# Altium schematic symbol library SKALE_LIB.SCHLIB: 65 symbols (part 1 of 2)
Pins are listed as number, name and electrical type; pins without a type are passive.

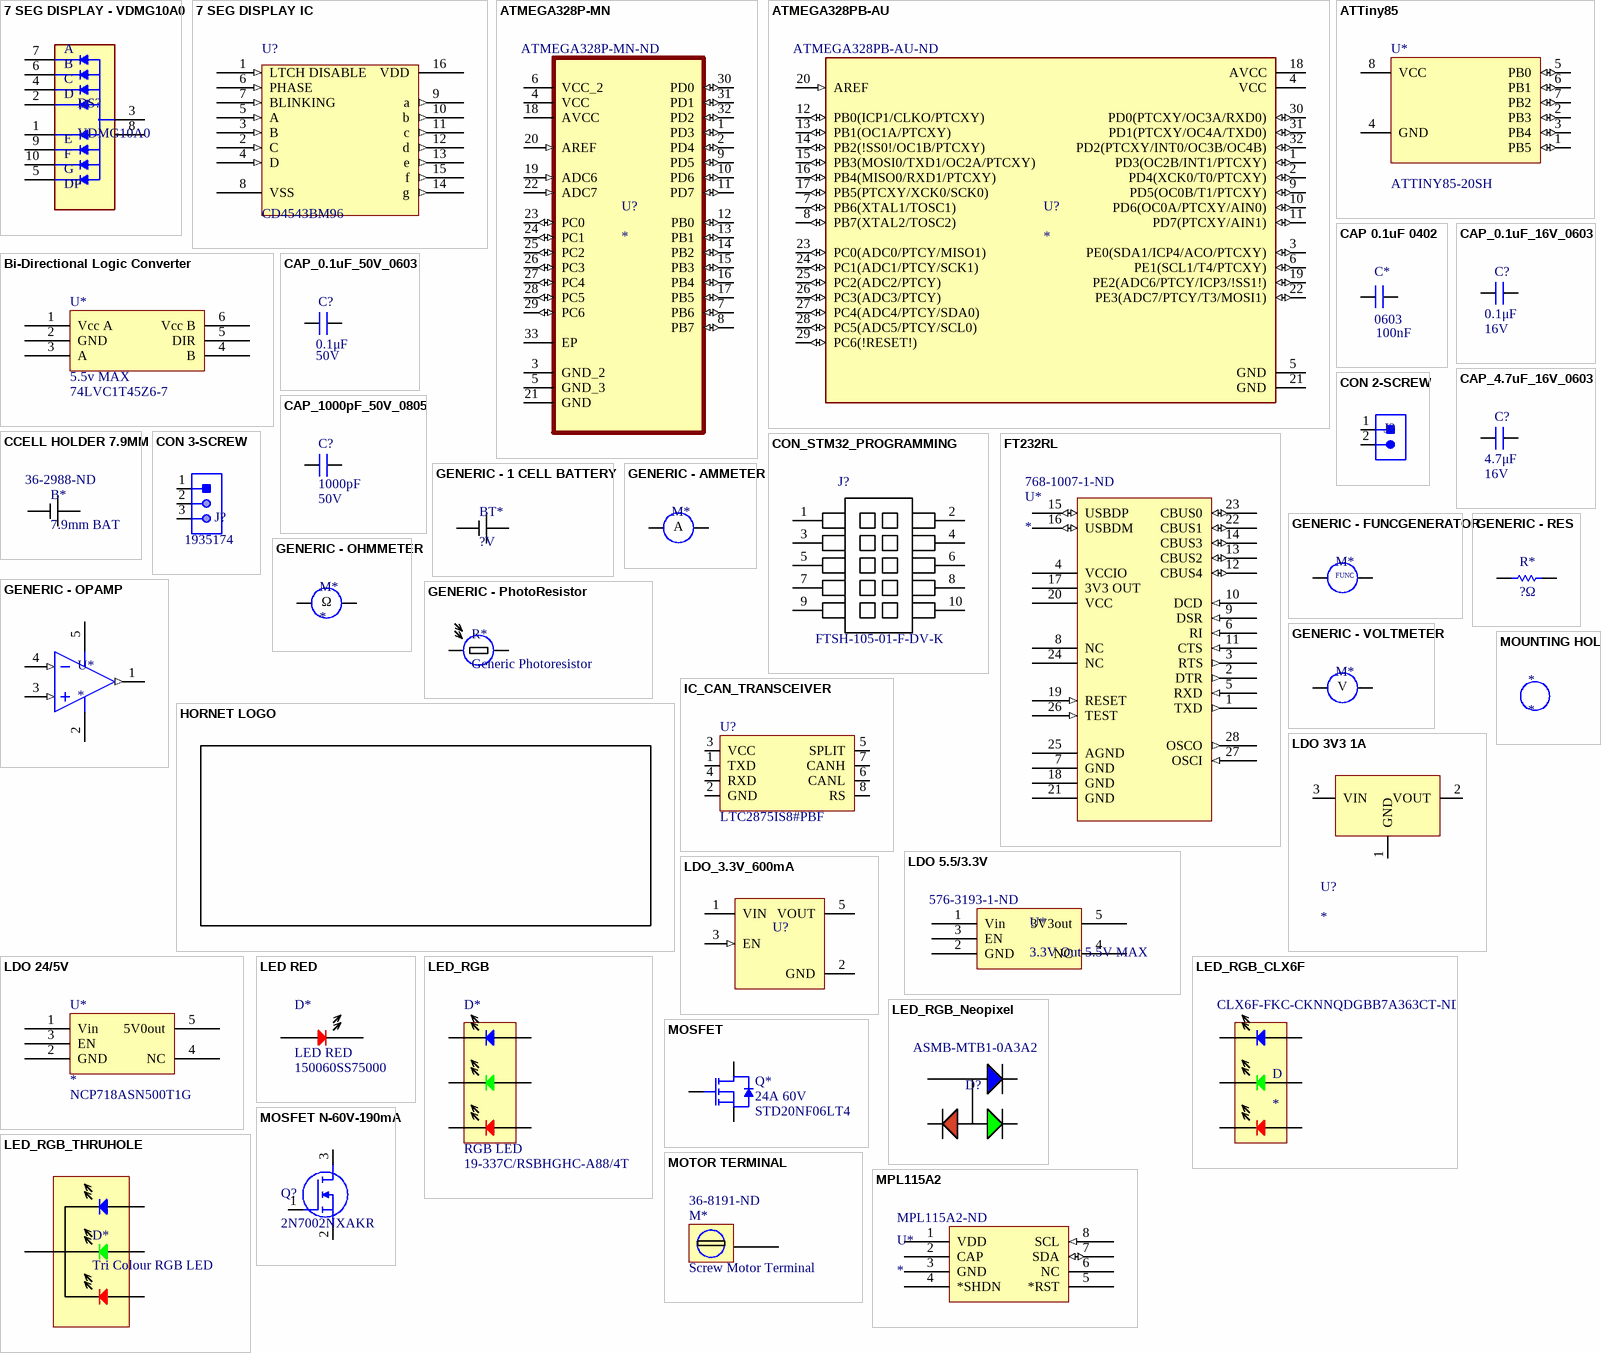
[diagram p0: symbols 7 SEG DISPLAY - VDMG10A0 to MPL115A2]

## 7 SEG DISPLAY - VDMG10A0
designator DS?, comment VDMG10A0
Smart/Normal 7 Seg Numeric LED Display; Manufacturer: Vishay Semiconductors; Package: SMD-10 Vishay; MP: VDMG10A0; Supplier 1: Digi-Key; Manufacturer Part Number: VDMG10A0; RoHS: Yes; Category: LED Displays; Stock 1: 6191; Pricing 1: 1=1.55000, 10=1.38200, 100=1.07760 (USD); Optoelectronic Device Type: SMART/NORMAL 7 SEG NUMERIC LED DISPLAY; REACH SVHC: No SVHC; RoHS Compliant: Yes; ComponentLink1URL: https://datasheet.ciiva.com:443/pdfs/VipMasterIC/IC/VISH/VISH-S-A0001108912/VISH-S-A0001108912-1.pdf?src-supplier=IHS+Markit; ComponentLink1Description: https://datasheet.ciiva.com:443/pdfs/VipMasterIC/IC/VISH/VISH-S-A0001108912/VISH-S-A0001108912-1.pdf?src-supplier=IHS+Markit; ComponentLink2URL: https://datasheet.ciiva.com/24075/vdmx10x0-272413-24075313.pdf?src-supplier=Mouser; ComponentLink2Description: https://datasheet.ciiva.com/24075/vdmx10x0-272413-24075313.pdf?src-supplier=Mouser; ComponentLink3URL: https://datasheet.ciiva.com/23867/vdmx10x0-23867376.pdf?src-supplier=Newark; ComponentLink3Description: https://datasheet.ciiva.com/23867/vdmx10x0-23867376.pdf?src-supplier=Newark; ComponentLink4URL: https://datasheet.ciiva.com/29566/vdmx10x0-29566054.pdf?src-supplier=Digi-Key; ComponentLink4Description: https://datasheet.ciiva.com/29566/vdmx10x0-29566054.pdf?src-supplier=Digi-Key; ComponentLink5URL: https://datasheet.ciiva.com/29566/vdmx10x0-29566055.pdf?src-supplier=Digi-Key; ComponentLink5Description: https://datasheet.ciiva.com/29566/vdmx10x0-29566055.pdf?src-supplier=Digi-Key; ComponentLink6URL: https://datasheet.ciiva.com/29566/vdmx10x0-29566056.pdf?src-supplier=Digi-Key; ComponentLink6Description: https://datasheet.ciiva.com/29566/vdmx10x0-29566056.pdf?src-supplier=Digi-Key; ComponentLink7URL: https://datasheet.ciiva.com/30017/vdmx10x0-30017276.pdf?src-supplier=Avnet; ComponentLink7Description: https://datasheet.ciiva.com/30017/vdmx10x0-30017276.pdf?src-supplier=Avnet; ComponentLink8URL: https://datasheet.ciiva.com/23867/1809851-23867367.pdf?src-supplier=Newark; ComponentLink8Description: https://datasheet.ciiva.com/23867/1809851-23867367.pdf?src-supplier=Newark; ComponentLink9URL: https://datasheet.ciiva.com/22726/1913356-22726255.pdf?src-supplier=Element14; ComponentLink9Description: https://datasheet.ciiva.com/22726/1913356-22726255.pdf?src-supplier=Element14; ComponentLink10URL: https://datasheet.ciiva.com/24208/vdmx10x0-24208888.pdf?src-supplier=Future+Electronics; ComponentLink10Description: https://datasheet.ciiva.com/24208/vdmx10x0-24208888.pdf?src-supplier=Future+Electronics; Supplier Part Number 1: VDMG10A0CT-ND
footprint DISPLAY_VDMG10A0
pins: 1 E, 2 D, 3 ANODE, 4 C, 5 DP, 6 B, 7 A, 8 ANODE, 9 F, 10 G

## 7 SEG DISPLAY IC
designator U?, comment CD4543BM96
Seven Segment Decoder/Driver, 4000/14000/40000 Series, Configurable Output, CMOS, PDSO16; Manufacturer: Texas Instruments; Package Body Material: Plastic; Input Conditioning: LATCHED; Number of Functions: 1; Propagation Delay (tpd): 1200ns; Supply Voltage-Max (Vsup): 18V; Supply Voltage-Min (Vsup): 3V; Supply Voltage-Nom (Vsup): 5V; Qualification Status: Not Qualified; Supplier 1: Digi-Key; RoHS: Yes; Category: Decoders and Multiplexers; Stock 1: 1242; Pricing 1: 1=0.44000, 10=0.37800, 25=0.35240, 100=0.28200, 250=0.26184, 500=0.22154, 1000=0.17119 (USD); Package Code: SOP; Number of Pins: 16; Package Shape: Rectangular; Terminal Finish: Nickel; Min Operating Temperature: -55°C; Max Operating Temperature: 125°C; JESD-609 Code: e4; Output Polarity: Configurable; JESD-30 Code: R-PDSO-G16; Logic IC Type: SEVEN SEGMENT DECODER/DRIVER; Moisture Sensitivity Level: 1; Package Style: SMALL OUTLINEMeter; Peak Reflow Temperature (Cel): 260°C; Surface Mount: Yes; Technology: CMOS; Terminal Form: Gull Wing; Terminal Position: DUAL; Length: 9.9mm; Width: 3.9mm; Height - Seated (Max): 1.75mm; Terminal Pitch: 1.27mm; Temperature Grade: MILITARY; REACH SVHC: Yes; RoHS Compliant: Yes; ComponentLink1URL: https://www.ti.com:443/lit/ds/symlink/cd4543b.pdf?src-supplier=IHS+Markit; ComponentLink1Description: https://www.ti.com:443/lit/ds/symlink/cd4543b.pdf?src-supplier=IHS+Markit; ComponentLink2URL: https://datasheet.ciiva.com/15092/getdatasheetpartid-635761-15092907.pdf?src-supplier=Verical; ComponentLink2Description: https://datasheet.ciiva.com/15092/getdatasheetpartid-635761-15092907.pdf?src-supplier=Verical; ComponentLink3URL: https://datasheet.ciiva.com/41457/001013540-da-01-en-ic-bcd-7seg-ltch-cd4543bm96-soic-16-tid-41457278.pdf?src-supplier=Conrad; ComponentLink3Description: https://datasheet.ciiva.com/41457/001013540-da-01-en-ic-bcd-7seg-ltch-cd4543bm96-soic-16-tid-41457278.pdf?src-supplier=Conrad; ComponentLink4URL: https://datasheet.ciiva.com/6612/cd4543b-6612264.pdf?src-supplier=Digi-Key; ComponentLink4Description: https://datasheet.ciiva.com/6612/cd4543b-6612264.pdf?src-supplier=Digi-Key; ComponentLink5URL: https://datasheet.ciiva.com/6612/cd4543b-6612265.pdf?src-supplier=Digi-Key; ComponentLink5Description: https://datasheet.ciiva.com/6612/cd4543b-6612265.pdf?src-supplier=Digi-Key; ComponentLink6URL: https://datasheet.ciiva.com/6612/cd4543b-6612267.pdf?src-supplier=Digi-Key; ComponentLink6Description: https://datasheet.ciiva.com/6612/cd4543b-6612267.pdf?src-supplier=Digi-Key; Supplier Part Number 1: 296-31539-1-ND; Manufacturer Part Number: CD4543BM96
footprint SOIC127P600X175-16N
pins: 1 LTCH DISABLE (in), 2 C (in), 3 B (in), 4 D (in), 5 A (in), 6 PHASE (in), 7 BLINKING (in) "BLANKING", 8 VSS (power), 9 a (out), 10 b (out), 11 c (out), 12 d (out), 13 e (out), 14 g (out), 15 f (out), 16 VDD (power)

## ATMEGA328P-MN
designator U?  Supplier Part Number 1: ATMEGA328P-MN-ND
RISC Microcontroller, 8-Bit, FLASH, AVR RISC CPU, 20MHz, CMOS, PQCC32; Manufacturer: Microchip / Atmel; MP: ATMEGA328P-MN; MF: Microchip; Package Body Material: Plastic; Number of I/O Lines: 23; Package Equivalence Code: LCC32,.2SQ,20; Power Supplies: 2.5V; Speed: 20RPM; Max Supply Current: 9mA; Max Supply Voltage: 5.5V; Min Supply Voltage: 4.5V; Supply Voltage-Nom: 5V; Time @ Peak Reflow Temperature-Max (s): 40s; Qualification Status: Not Qualified; Price: None; Value: *; Package: VQFN-32 Microchip; SnapEDA_Link: https://www.snapeda.com/parts/ATMEGA328P-MN/Microchip/view-part/652121/?ref=snap; Availability: Unavailable; Supplier 1: Digi-Key; Manufacturer Part Number: ATMEGA328P-MN; RoHS: Yes; Category: Microcontrollers; Stock 1: 639; Pricing 1: 1=2.44000, 25=2.24400, 100=2.02400 (USD); Package Code: HVQCCN; Number of Pins: 32; Package Shape: Square; Terminal Finish: Tin; Min Operating Temperature: -40°C; Max Operating Temperature: 105°C; JESD-609 Code: e3; Max Frequency: 20MHz; JESD-30 Code: S-PQCC-N32; Moisture Sensitivity Level: 3; Package Style: CHIP CARRIER, HEAT SINK/SLUG, VERY THIN PROFILEMeter; Peak Reflow Temperature (Cel): 260°C; Surface Mount: Yes; Technology: CMOS; Terminal Form: No Lead; Terminal Position: QUAD; Length: 5mm; Width: 5mm; Height - Seated (Max): 1mm; Terminal Pitch: 0.5mm; Temperature Grade: INDUSTRIAL; REACH SVHC: Yes; RoHS Compliant: Yes; ComponentLink1URL: https://datasheet.ciiva.com:443/pdfs/VipMasterIC/IC/ATML/ATML-S-A0002642585/ATML-S-A0002642585-1.pdf?src-supplier=IHS+Markit; ComponentLink1Description: https://datasheet.ciiva.com:443/pdfs/VipMasterIC/IC/ATML/ATML-S-A0002642585/ATML-S-A0002642585-1.pdf?src-supplier=IHS+Markit; ComponentLink2URL: https://datasheet.ciiva.com/26949/getdatasheetpartid-513389-26949909.pdf?src-supplier=Verical; ComponentLink2Description: https://datasheet.ciiva.com/26949/getdatasheetpartid-513389-26949909.pdf?src-supplier=Verical
footprint QFN50P500X500X100-33N
pins: 1 PD3 (io), 2 PD4 (io), 3 GND_2, 4 VCC (power), 5 GND_3, 6 VCC_2 (power), 7 PB6 (io), 8 PB7 (io), 9 PD5 (io), 10 PD6 (io), 11 PD7 (io), 12 PB0 (io), 13 PB1 (io), 14 PB2 (io), 15 PB3 (io), 16 PB4 (io), 17 PB5 (io), 18 AVCC (power), 19 ADC6 (in), 20 AREF (in), 21 GND, 22 ADC7 (in), 23 PC0 (io), 24 PC1 (io), 25 PC2 (io), 26 PC3 (io), 27 PC4 (io), 28 PC5 (io), 29 PC6 (io), 30 PD0 (io), 31 PD1 (io), 32 PD2 (io), 33 EP

## ATMEGA328PB-AU
designator U?  Supplier Part Number 1: ATMEGA328PB-AU-ND
RISC Microcontroller, 8-Bit, FLASH, AVR RISC CPU, 20MHz, CMOS, PQFP32; Manufacturer: Microchip; MF: Microchip Technology; MP: ATMEGA328PB-AU; Digi-Key_Purchase_URL: https://www.digikey.com/product-detail/en/microchip-technology/ATMEGA328PB-AU/ATMEGA328PB-AU-ND/5638812?utm_source=snapeda&utm_medium=aggregator&utm_campaign=symbol; Digi-Key_Part_Number: ATMEGA328PB-AU-ND; Value: *; SnapEDA_Link: https://www.snapeda.com/parts/ATMEGA328PB-AU/Microchip/view-part/4478285/?ref=snap; Package: TQFP-32 Microchip Technology; Supplier 1: Digi-Key; Manufacturer Part Number: ATMEGA328PB-AU; RoHS: Yes; Category: Microcontrollers; Pricing 1: 1=1.47000, 25=1.35320, 100=1.23200 (USD); Technology: CMOS; REACH SVHC: Yes; RoHS Compliant: Yes; ComponentLink1URL: https://datasheet.ciiva.com:443/pdfs/VipMasterIC/IC/MCHP/MCHP-S-A0004276582/MCHP-S-A0004276582-1.pdf?src-supplier=IHS+Markit; ComponentLink1Description: https://datasheet.ciiva.com:443/pdfs/VipMasterIC/IC/MCHP/MCHP-S-A0004276582/MCHP-S-A0004276582-1.pdf?src-supplier=IHS+Markit; ComponentLink2URL: http://www.farnell.com/datasheets/2915218.pdf?src-supplier=Farnell; ComponentLink2Description: http://www.farnell.com/datasheets/2915218.pdf?src-supplier=Farnell; ComponentLink3URL: http://www.farnell.com/datasheets/2915218.pdf?src-supplier=Newark; ComponentLink3Description: http://www.farnell.com/datasheets/2915218.pdf?src-supplier=Newark; ComponentLink4URL: http://www.microchip.com/mymicrochip/filehandler.aspx?ddocname=en589666&src-supplier=Digi-Key; ComponentLink4Description: http://www.microchip.com/mymicrochip/filehandler.aspx?ddocname=en589666&src-supplier=Digi-Key
footprint QFP80P900X900X120-32N
pins: 1 PD3(OC2B/INT1/PTCXY) (io), 2 PD4(XCK0/T0/PTCXY) (io), 3 PE0(SDA1/ICP4/ACO/PTCXY) (io), 4 VCC (power), 5 GND (power), 6 PE1(SCL1/T4/PTCXY) (io), 7 PB6(XTAL1/TOSC1) (io), 8 PB7(XTAL2/TOSC2) (io), 9 PD5(OC0B/T1/PTCXY) (io), 10 PD6(OC0A/PTCXY/AIN0) (io), 11 PD7(PTCXY/AIN1) (io), 12 PB0(ICP1/CLKO/PTCXY) (io), 13 PB1(OC1A/PTCXY) (io), 14 PB2(!SS0!/OC1B/PTCXY) (io), 15 PB3(MOSI0/TXD1/OC2A/PTCXY) (io), 16 PB4(MISO0/RXD1/PTCXY) (io), 17 PB5(PTCXY/XCK0/SCK0) (io), 18 AVCC (power), 19 PE2(ADC6/PTCY/ICP3/!SS1!) (io), 20 AREF (in), 21 GND (power), 22 PE3(ADC7/PTCY/T3/MOSI1) (io), 23 PC0(ADC0/PTCY/MISO1) (io), 24 PC1(ADC1/PTCY/SCK1) (io), 25 PC2(ADC2/PTCY) (io), 26 PC3(ADC3/PTCY) (io), 27 PC4(ADC4/PTCY/SDA0) (io), 28 PC5(ADC5/PTCY/SCL0) (io), 29 PC6(!RESET!) (io), 30 PD0(PTCXY/OC3A/RXD0) (io), 31 PD1(PTCXY/OC4A/TXD0) (io), 32 PD2(PTCXY/INT0/OC3B/OC4B) (io)

## ATTiny85
designator U*  Manufacturer Part Number: ATTINY85-20SH  (hidden comment: ATTiny85)
RISC Microcontroller, 8-Bit, FLASH, AVR RISC CPU, 20MHz, CMOS, PDSO8; Manufacturer: Microchip / Atmel; Package Body Material: Plastic; Number of I/O Lines: 6; Package Equivalence Code: SOP8,.3; Power Supplies: 3/5V; Speed: 20RPM; Max Supply Current: 8mA; Max Supply Voltage: 5.5V; Min Supply Voltage: 4.5V; Supply Voltage-Nom: 5V; Qualification Status: Not Qualified; Supplier 1: Digi-Key; RoHS: Yes; Category: Microcontrollers; Stock 1: 1154; Package Code: SOP; Number of Pins: 8; Package Shape: Rectangular; Min Operating Temperature: -40°C; Max Operating Temperature: 85°C; Max Frequency: 20MHz; JESD-30 Code: R-PDSO-G8; Package Style: SMALL OUTLINEMeter; Surface Mount: Yes; Technology: CMOS; Terminal Form: Gull Wing; Terminal Position: DUAL; Length: 5.29mm; Width: 5.24mm; Height - Seated (Max): 2.16mm; Terminal Pitch: 1.27mm; Temperature Grade: INDUSTRIAL; ComponentLink1URL: https://datasheet.ciiva.com:443/pdfs/VipMasterIC/IC/ATML/ATMLS09344/ATMLS09344-1.pdf?src-supplier=IHS+Markit; ComponentLink1Description: https://datasheet.ciiva.com:443/pdfs/VipMasterIC/IC/ATML/ATMLS09344/ATMLS09344-1.pdf?src-supplier=IHS+Markit; ComponentLink2URL: https://datasheet.ciiva.com/9235/doc2586-9235500.pdf?src-supplier=Avnet; ComponentLink2Description: https://datasheet.ciiva.com/9235/doc2586-9235500.pdf?src-supplier=Avnet; Supplier Part Number 1: ATTINY85-20SH-ND
footprint SOIC127P798X216-8N
pins: 1 PB5 (io), 2 PB3 (io), 3 PB4 (io), 4 GND, 5 PB0 (io), 6 PB1 (io), 7 PB2 (io), 8 VCC (power)

## Bi-Directional Logic Converter
designator U*, comment 5.5v MAX  Manufacturer Part Number: 74LVC1T45Z6-7
Bus Transceiver, LVC/LCX/Z Series, 1-Func, 1-Bit, True Output, CMOS, PDSO6; Manufacturer: Diodes; Package Body Material: Plastic; Control Type: COMMON CONTROL; Count Direction: Bidirectional; Load/Preset Input: Yes; Max I(ol): 24mA; Number of Bits: 1; Number of Ports: 2; Output Characteristics: 3-STATE; Power Supplies: 3.3V; Supply Voltage-Min (Vsup): 1.65V; Qualification Status: Not Qualified; Supplier 1: Digi-Key; RoHS: Yes; Category: Logic ICs; Stock 1: 88129; Pricing 1: 1=0.39000, 10=0.29300, 25=0.26400, 100=0.18240, 250=0.15360, 500=0.12480, 1000=0.09600 (USD); Package Code: VSOF; Number of Pins: 6; Package Shape: Rectangular; Terminal Finish: Tin; Min Operating Temperature: -40°C; Max Operating Temperature: 125°C; JESD-609 Code: e3; Output Polarity: True; JESD-30 Code: R-PDSO-F6; Logic IC Type: BUS TRANSCEIVER; Moisture Sensitivity Level: 1; Number of Functions: 1; Package Style: SMALL OUTLINE, VERY THIN PROFILEMeter; Packaging: Tape and Reel; Supply Voltage-Max (Vsup): 5.5V; Supply Voltage-Nom (Vsup): 3.3V; Surface Mount: Yes; Technology: CMOS; Terminal Form: Flat; Terminal Position: DUAL; Width: 1.2mm; Height - Seated (Max): 0.6mm; Terminal Pitch: 0.5mm; Temperature Grade: AUTOMOTIVE; ComponentLink1URL: https://datasheet.ciiva.com:443/pdfs/VipMasterIC/IC/DIOD/DIOD-S-A0006644025/DIOD-S-A0006644025-1.pdf?src-supplier=IHS+Markit; ComponentLink1Description: https://datasheet.ciiva.com:443/pdfs/VipMasterIC/IC/DIOD/DIOD-S-A0006644025/DIOD-S-A0006644025-1.pdf?src-supplier=IHS+Markit; ComponentLink2URL: http://www.mouser.com/ds/2/115/74LVC1T45-318124.pdf?src-supplier=Mouser; ComponentLink2Description: http://www.mouser.com/ds/2/115/74LVC1T45-318124.pdf?src-supplier=Mouser; ComponentLink3URL: http://diodes.com/datasheets/74LVC1T45.pdf?src-supplier=Avnet; ComponentLink3Description: http://diodes.com/datasheets/74LVC1T45.pdf?src-supplier=Avnet; ComponentLink4URL: https://www.diodes.com/assets/Datasheets/74LVC1T45.pdf?src-supplier=Digi-Key; ComponentLink4Description: https://www.diodes.com/assets/Datasheets/74LVC1T45.pdf?src-supplier=Digi-Key; Supplier Part Number 1: 74LVC1T45Z6-7DICT-ND
footprint 74LVC1T45Z6-7
pins: 1 Vcc A, 2 GND, 3 A, 4 B, 5 DIR, 6 Vcc B (power)

## CAP 0.1uF 0402
designator C*, comment 0603  Capacitance: 100nF
Ceramic Capacitor, Multilayer, Ceramic, 16V, 10% +Tol, 10% -Tol, X5R, 15% TC, 0.1uF, Surface Mount, 0603; Manufacturer: Taiyo Yuden; Manufacturer Part Number: EMK107BJ104KAHT; Multilayer: Yes; Reference Standard: AEC-Q200; Supplier 1: Digi-Key; RoHS: Yes; Category: Ceramic Capacitors; Stock 1: 65712; Mount: Surface Mount; Number of Pins: 2; Dielectric Material: Ceramic; Package Shape: Rectangular; Size Code: 0603; Min Operating Temperature: -55°C; Max Operating Temperature: 85°C; Capacitor Type: Ceramic; Negative Tolerance: 10%; Package Style: SMTMeter; Packaging: Tape and Reel; Positive Tolerance: 10%; Rated DC Voltage (URdc): 16V; Temperature Characteristics Code: X5R; Termination: Wraparound; Length: 1.6mm; Width: 0.8mm; Height: 0.8mm; ComponentLink1URL: https://datasheet.ciiva.com:443/pdfs/VipMasterIC/IC/TAIY/TAIY-S-A0009098652/TAIY-S-A0009098054-1.pdf?src-supplier=IHS+Markit; ComponentLink1Description: https://datasheet.ciiva.com:443/pdfs/VipMasterIC/IC/TAIY/TAIY-S-A0009098652/TAIY-S-A0009098054-1.pdf?src-supplier=IHS+Markit; ComponentLink2URL: http://www.mouser.com/ds/2/396/mlcc11_hq_e-541564.pdf?src-supplier=Mouser; ComponentLink2Description: http://www.mouser.com/ds/2/396/mlcc11_hq_e-541564.pdf?src-supplier=Mouser; ComponentLink3URL: http://ds.yuden.co.jp/TYCOMPAS/ut/detail.do?productNo=EMK107BJ104KAHT&fileName=EMK107BJ104KAHT_SS&mode=specSheetDownload&src-supplier=Digi-Key; ComponentLink3Description: http://ds.yuden.co.jp/TYCOMPAS/ut/detail.do?productNo=EMK107BJ104KAHT&fileName=EMK107BJ104KAHT_SS&mode=specSheetDownload&src-supplier=Digi-Key; ComponentLink4URL: http://www.yuden.co.jp/ut/product/category/capacitor/putpdf/EMK107BJ104KAHT.pdf?src-supplier=Avnet; ComponentLink4Description: http://www.yuden.co.jp/ut/product/category/capacitor/putpdf/EMK107BJ104KAHT.pdf?src-supplier=Avnet; Supplier Part Number 1: 587-3308-1-ND
footprint 0603
pins: 1, 1, 2, 2

## CAP_0.1uF_16V_0603
designator C?  value 0.1μF  Voltage Rating: 16V
CAP CER 0.1UF 16V X7R 0603; Manufacturer Part Number 1: CC0603KRX7R7BB104; Manufacturer 1: Yageo; Package/Footprint: 0603; Supplier Part Number 1: 311-1088-1-ND; Supplier 1: Digi-Key; Dielectric: X7R
footprint CAP0603
pins: 1, 2

## CAP_0.1uF_50V_0603
designator C?  value 0.1μF  Voltage Rating: 50V
CAP CER 0.1UF 50V X7R 0603; Manufacturer Part Number 1: CC0603KRX7R9BB104; Manufacturer 1: Yageo; Package/Footprint: 0603; Supplier Part Number 1: 311-1344-1-ND; Supplier 1: Digi-Key; Mounting Type: SMD; Dielectric: X7R
footprint CAP0603
pins: 1, 2

## CAP_4.7uF_16V_0603
designator C?  value 4.7μF  Voltage Rating: 16V
CAP CER 4.7UF 16V X6S 0603; Manufacturer Part Number 1: GRM188C81C475KE11D; Manufacturer 1: Murata Electronics; Package/Footprint: 0603; Supplier Part Number 1: 490-13362-1-ND; Supplier 1: Digi-Key; Mounting Type: SMD; Dielectric: X6S
footprint CAP0603
pins: 1, 2

## CAP_1000pF_50V_0805
designator C?  value 1000pF  Voltage Rating: 50V
CAP CER 1000pF 50V X7R 0805; Manufacturer 1: Samsung; Manufacturer Part Number 1: CL21B102KBANNNC; Package/Footprint: 0805; Supplier 1: Digi-Key; Mounting Type: SMD; Supplier Part Number 1: 1276-1020-1-ND; Dielectric: X7R
footprint CAP0805
pins: 1, 2

## CCELL HOLDER 7.9MM
designator B*, comment 7.9mm BAT  Supplier Part Number 1: 36-2988-ND
KEYSTONE         2988            BATTERY CONTACT, 7.9MM HEAR AID CELL, SURFACE MT; Manufacturer: Keystone Electronics; Manufacturer Part Number: 2988; Supplier 1: Digi-Key; RoHS: Yes; Category: Batteries and Accessories; Stock 1: 1523; Pricing 1: 1=0.39000, 25=0.35440, 100=0.34690, 250=0.32528, 500=0.28920 (USD); ComponentLink1URL: https://datasheet.ciiva.com/4642/m60p6-29374-4642672.pdf?src-supplier=Mouser; ComponentLink1Description: https://datasheet.ciiva.com/4642/m60p6-29374-4642672.pdf?src-supplier=Mouser; ComponentLink2URL: https://datasheet.ciiva.com/4/2988-4524.pdf?src-supplier=Digi-Key; ComponentLink2Description: https://datasheet.ciiva.com/4/2988-4524.pdf?src-supplier=Digi-Key; ComponentLink3URL: https://datasheet.ciiva.com/1390/1726104-1390366.pdf?src-supplier=Element14; ComponentLink3Description: https://datasheet.ciiva.com/1390/1726104-1390366.pdf?src-supplier=Element14
footprint 2988
pins: 1 -, 2 +

## CON 2-SCREW
designator J?
TERM BLK 2POS SIDE ENTRY 5MM; Manufacturer 1: Phoenix Contact; Manufacturer Part Number 1: 1935161; Package/Footprint: SMD; Supplier 1: Digi-Key; Mounting Type: TH; Supplier Part Number 1: 277-1667-ND
footprint 1935161 (TERM BLK 2POS SIDE ENTRY 5MM PCB)
pins: 1, 2

## CON 3-SCREW
designator J?  Manufacturer Part Number 1: 1935174
TERM BLK 3POS SIDE ENTRY 5MM; Manufacturer 1: Phoenix Contact; Package/Footprint: TH; Voltage Rating: 250V; Current Rating: 17.5A; Supplier 1: Digi-Key; Mounting Type: TH; Orientation: Straight; Pitch: 5mm; Supplier Part Number 1: 277-1578-ND
footprint 1935174 (5 MM PITCH)
pins: 1, 2, 3

## CON_STM32_PROGRAMMING
designator J?  Manufacturer Part Number 1: FTSH-105-01-F-DV-K
CONN HEADER SMD 10POS 1.27MM; Manufacturer 1: Samtec; Supplier 1: Digi-Key; Mounting Type: SMD; Pitch: 1.27mm; Supplier Part Number 1: SAM8796-ND; Package/Footprint: SMD
footprint FTSH-105-01-F-DV-K-P-TR (Samtec programming header 10 positions)
pins: 1, 2, 3, 4, 5, 6, 7, 8, 9, 10

## FT232RL
designator U*  Supplier Part Number 1: 768-1007-1-ND
USB Bus Controller, CMOS, PDSO28; Manufacturer: FTDI; Manufacturer Part Number: FT232RL-REEL; Package Body Material: Plastic; Max Frequency: 48MHz; Max Supply Current: 100uA; Max Supply Voltage: 5.25V; Min Supply Voltage: 3.3V; Qualification Status: Not Qualified; Supplier 1: Digi-Key; RoHS: Yes; Category: Interface ICs; Stock 1: 118964; Pricing 1: 1=4.50000, 10=4.05000, 50=3.85000, 100=3.65000, 250=3.25000, 500=2.85002, 1000=2.65000 (USD); Package Code: SSOP; Number of Pins: 28; Package Shape: Rectangular; Min Operating Temperature: -40°C; Max Operating Temperature: 85°C; JESD-30 Code: R-PDSO-G28; Moisture Sensitivity Level: 3; Package Style: SMALL OUTLINE, SHRINK PITCHMeter; Surface Mount: Yes; Technology: CMOS; Terminal Form: Gull Wing; Terminal Position: DUAL; Length: 10.2mm; Width: 5.3mm; Height - Seated (Max): 2mm; Terminal Pitch: 0.65mm; Temperature Grade: INDUSTRIAL; ComponentLink1URL: https://datasheet.ciiva.com:443/pdfs/VipMasterIC/IC/FTDI/FTDI-S-A0007980421/FTDI-S-A0007980421-1.pdf?src-supplier=IHS+Markit; ComponentLink1Description: https://datasheet.ciiva.com:443/pdfs/VipMasterIC/IC/FTDI/FTDI-S-A0007980421/FTDI-S-A0007980421-1.pdf?src-supplier=IHS+Markit; ComponentLink2URL: https://datasheet.ciiva.com/34304/2161019-34304054.pdf?src-supplier=Jameco; ComponentLink2Description: https://datasheet.ciiva.com/34304/2161019-34304054.pdf?src-supplier=Jameco; ComponentLink3URL: https://datasheet.ciiva.com/4787/ds-ft232r-11534-4787658.pdf?src-supplier=Mouser; ComponentLink3Description: https://datasheet.ciiva.com/4787/ds-ft232r-11534-4787658.pdf?src-supplier=Mouser; ComponentLink4URL: https://datasheet.ciiva.com/26841/ft232rl-reel-26841080.pdf?src-supplier=IIIC; ComponentLink4Description: https://datasheet.ciiva.com/26841/ft232rl-reel-26841080.pdf?src-supplier=IIIC; ComponentLink5URL: https://datasheet.ciiva.com/1787/ds-ft232r-1787047.pdf?src-supplier=Digi-Key; ComponentLink5Description: https://datasheet.ciiva.com/1787/ds-ft232r-1787047.pdf?src-supplier=Digi-Key; ComponentLink6URL: https://datasheet.ciiva.com/1787/ds-ft232r-1787048.pdf?src-supplier=Digi-Key; ComponentLink6Description: https://datasheet.ciiva.com/1787/ds-ft232r-1787048.pdf?src-supplier=Digi-Key; ComponentLink7URL: https://datasheet.ciiva.com/1787/ds-ft232r-1787049.pdf?src-supplier=Digi-Key; ComponentLink7Description: https://datasheet.ciiva.com/1787/ds-ft232r-1787049.pdf?src-supplier=Digi-Key; ComponentLink8URL: https://datasheet.ciiva.com/15150/getdatasheetpartid-643207-15150506.pdf?src-supplier=Verical; ComponentLink8Description: https://datasheet.ciiva.com/15150/getdatasheetpartid-643207-15150506.pdf?src-supplier=Verical; ComponentLink9URL: https://datasheet.ciiva.com/16200/ds-ft232r-16200652.pdf?src-supplier=Future+Electronics; ComponentLink9Description: https://datasheet.ciiva.com/16200/ds-ft232r-16200652.pdf?src-supplier=Future+Electronics
footprint FT232RL
pins: 1 TXD (out), 2 DTR (out), 3 RTS (out), 4 VCCIO (power), 5 RXD (in), 6 RI (in), 7 GND (power), 8 NC, 9 DSR (in), 10 DCD (in), 11 CTS (in), 12 CBUS4 (io), 13 CBUS2 (io), 14 CBUS3 (io), 15 USBDP (io), 16 USBDM (io), 17 3V3 OUT (power), 18 GND (power), 19 RESET (in), 20 VCC (power), 21 GND (power), 22 CBUS1 (io), 23 CBUS0 (io), 24 NC, 25 AGND (power), 26 TEST (in), 27 OSCI (in), 28 OSCO (out)

## GENERIC - 1 CELL BATTERY
designator BT*, comment ?V
Generic 1-Cell Power Supply
pins: 1 -, 2 +

## GENERIC - AMMETER
designator M*, comment ?*  (value not drawn)
Generic Ammeter
pins: 1, 2
text: A

## GENERIC - FUNCGENERATOR
designator M*, comment ?*  (value not drawn)
Generic Voltmeter
pins: 1, 2
text: FUNC

## GENERIC - OHMMETER
designator M*
Generic Ohmmeter
pins: 1, 2
text: Ω

## GENERIC - OPAMP
designator U*
Generic Opamp
pins: 1 OUT (out), 2 V- (power), 3 IN+ (in), 4 IN- (in), 5 V+ (power)

## GENERIC - PhotoResistor
designator R*, comment Generic Photoresistor
pins: 1, 2

## GENERIC - RES
designator R*, comment ?Ω
Generic Through Hole Resistor
footprint Generic ThroughHole
pins: 1, 2

## GENERIC - VOLTMETER
designator M*, comment ?*  (value not drawn)
Generic Voltmeter
pins: 1, 2
text: V

## HORNET LOGO
designator *  (value not drawn)  (graphical)

## IC_CAN_TRANSCEIVER
designator U?  Manufacturer Part Number 1: LTC2875IS8#PBF
IC TXRX CAN 4MBPS 8SO; Manufacturer 1: Linear Technologies; Package/Footprint: 8-SOIC; Supplier Part Number 1: LTC2875IS8#PBF-ND; Supplier 1: Digi-Key; Mounting Type: SMD; LCSC Part #: C117076
footprint LT-S8_N (SOP, 8-Leads, Body 4.9x3.9mm, Pitch 1.27mm, IPC Medium Density)
pins: 1 TXD, 2 GND, 3 VCC, 4 RXD, 5 SPLIT, 6 CANL, 7 CANH, 8 RS

## LDO 3V3 1A
designator U?
Fixed Positive LDO Regulator, 3.3V, 1.3V Dropout, BIPolar, PDSO4; Manufacturer: Diodes Zetex; Manufacturer Part Number: ZLDO1117G33TA; Package Body Material: Plastic; Dropout Voltage1-Nom: 1.11V; Input Voltage Absolute-Max: 18V; Line Regulation-Max: 0.04752%; Load Regulation-Max: 0.013%; Number of Functions: 1; Output Current1-Max: 1A; Output Voltage1-Max: 3.333V; Output Voltage1-Min: 3.267V; Regulator Type: FIXED POSITIVE SINGLE OUTPUT LDO REGULATOR; Time @ Peak Reflow Temperature-Max (s): 40s; Voltage Tolerance-Max: 2%; Qualification Status: Not Qualified; Supplier 1: Digi-Key; RoHS: Yes; Category: Voltage Regulators - Linear; Stock 1: 623943; Pricing 1: 1=0.51000, 10=0.43700, 25=0.40800, 100=0.32650, 250=0.30316, 500=0.25652 (USD); Package Code: SOP; Number of Pins: 4; Package Shape: Rectangular; Terminal Finish: Tin; JESD-609 Code: e3; Adjustability: FIXED; Dropout Voltage1-Max: 1.3V; Max Input Voltage: 18V; JESD-30 Code: R-PDSO-G4; Moisture Sensitivity Level: 1; Number of Outputs: 1; Operating Temperature, TJ-Max: 125°C; Operating Temperature, TJ-Min: -40°C; Output Voltage1-Nom: 3.3V; Package Style: SMALL OUTLINEMeter; Packaging: Tape and Reel; Peak Reflow Temperature (Cel): 260°C; Surface Mount: Yes; Technology: BIPOLAR; Terminal Form: Gull Wing; Terminal Position: DUAL; Length: 6.5mm; Width: 3.5mm; Height - Seated (Max): 1.8mm; Terminal Pitch: 2.3mm; REACH SVHC: Yes; RoHS Compliant: Yes; ComponentLink1URL: https://datasheet.ciiva.com:443/pdfs/VipMasterIC/IC/DIOD/DIODS15344/DIODS15344-1.pdf?src-supplier=IHS+Markit; ComponentLink1Description: https://datasheet.ciiva.com:443/pdfs/VipMasterIC/IC/DIOD/DIODS15344/DIODS15344-1.pdf?src-supplier=IHS+Markit; ComponentLink2URL: https://datasheet.ciiva.com/8078/608833-8078233.pdf?src-supplier=Element14; ComponentLink2Description: https://datasheet.ciiva.com/8078/608833-8078233.pdf?src-supplier=Element14; Supplier Part Number 1: ZLDO1117G33DICT-ND
footprint SOT230P700X165-4N
pins: 1 GND, 2 VOUT, 3 VIN

## LDO 5.5/3.3V
designator U*, comment 3.3V Out 5.5V MAX  Supplier Part Number 1: 576-3193-1-ND
Microchip Technology MIC5365-3.3YC5-TR, LDO Voltage Regulator Controller, 150mA, 3.3 V, ±3% 5-Pin, SC-75; Supplier 1: Digi-Key; Manufacturer: Microchip; Manufacturer Part Number: MIC5365-3.3YC5-TR; RoHS: Yes; Category: Voltage Regulators - Linear; Stock 1: 5958; Pricing 1: 1=0.12000, 25=0.10000, 100=0.09000 (USD); ComponentLink1URL: https://datasheet.ciiva.com/16466/mic5365-16466603.pdf?src-supplier=Future+Electronics; ComponentLink1Description: https://datasheet.ciiva.com/16466/mic5365-16466603.pdf?src-supplier=Future+Electronics
footprint MIC5365-3.3YC5-TR
pins: 1 Vin, 2 GND, 3 EN, 4 NC, 5 3V3out

## LDO 24/5V
designator U*  Manufacturer Part Number: NCP718ASN500T1G
Fixed Positive LDO Regulator, 5V, 0.38V Dropout, PDSO5; Manufacturer: ON Semiconductor; Regulator Type: FIXED POSITIVE SINGLE OUTPUT LDO REGULATOR; Supplier 1: Digi-Key; RoHS: No; Category: Voltage Regulators - Linear; Stock 1: 3776; Pricing 1: 1=0.39000, 10=0.33800, 25=0.31520, 100=0.23400, 250=0.19800, 500=0.18900, 1000=0.13950 (USD); ComponentLink1URL: https://datasheet.ciiva.com:443/pdfs/VipMasterIC/IC/ONSM/ONSM-S-A0008936508/ONSM-S-A0008936508-1.pdf?src-supplier=IHS+Markit; ComponentLink1Description: https://datasheet.ciiva.com:443/pdfs/VipMasterIC/IC/ONSM/ONSM-S-A0008936508/ONSM-S-A0008936508-1.pdf?src-supplier=IHS+Markit; ComponentLink2URL: http://www.farnell.com/datasheets/2711392.pdf?src-supplier=Farnell; ComponentLink2Description: http://www.farnell.com/datasheets/2711392.pdf?src-supplier=Farnell; ComponentLink3URL: https://www.onsemi.com/pub/Collateral/NCP718-D.PDF?src-supplier=Digi-Key; ComponentLink3Description: https://www.onsemi.com/pub/Collateral/NCP718-D.PDF?src-supplier=Digi-Key; ComponentLink4URL: http://www.farnell.com/datasheets/2711392.pdf?src-supplier=Newark; ComponentLink4Description: http://www.farnell.com/datasheets/2711392.pdf?src-supplier=Newark; Supplier Part Number 1: NCP718ASN500T1GOSCT-ND
footprint NCP718ASN500T1G
pins: 1 Vin, 2 GND, 3 EN, 4 NC, 5 5V0out

## LDO_3.3V_600mA
designator U?
IC REG LINEAR 3.3V 600MA SOT25; Manufacturer 1: Diodes Incorporated; Manufacturer Part Number 1: AP2112K-3.3TRG1; Input Voltage (Max): 6V; Voltage Dropout (Max): 0.4V; Package/Footprint: SOT-25; Supplier 1: Digi-Key; Supplier Part Number 1: AP2112K-3.3TRG1DICT-ND; Output Voltage (Fixed): 3.3V; Output Current: 600mA; Operating Temperature: -40°C - 85°C; LCSC Part #: C51118; Mounting Type: SMD
footprint SOT95P285X140-5N (AP2112K-3.3TRG1 LDO)
pins: 1 VIN (power), 2 GND (power), 3 EN (in), 5 VOUT (power)

## LED RED
designator D*  Manufacturer Part Number: 150060SS75000
Single Color LED, Super Red, Water Clear, 1.1mm; Manufacturer: Wurth Electronics; Shape: Rectangular; Number of Functions: 1; Forward Current-Max: 30mA; Luminous Intensity-Nom: 60mcd; Viewing Angle: 140°; Overall Height: 0.7mm; Supplier 1: Digi-Key; RoHS: Yes; Category: LEDs; Stock 1: 10507; Pricing 1: 1=0.14000, 50=0.13300, 100=0.11400, 500=0.09990 (USD); Mount: Surface Mount; Number of Pins: 2; Color: Red; Min Operating Temperature: -40°C; Max Operating Temperature: 85°C; Lens Style: WATER CLEAR; Optoelectronic Device Type: SINGLE COLOR LED; Packaging: Tape and Reel; Terminal Pitch: 1.6mm; Size: 1.1mm; REACH SVHC: Yes; RoHS Compliant: Yes; ComponentLink1URL: https://datasheet.ciiva.com:443/pdfs/VipMasterIC/IC/MIDC/MIDC-S-A0007768811/MIDC-S-A0007768811-1.pdf?src-supplier=IHS+Markit; ComponentLink1Description: https://datasheet.ciiva.com:443/pdfs/VipMasterIC/IC/MIDC/MIDC-S-A0007768811/MIDC-S-A0007768811-1.pdf?src-supplier=IHS+Markit; ComponentLink2URL: https://datasheet.ciiva.com/23843/150060ss75000-23843248.pdf?src-supplier=Newark; ComponentLink2Description: https://datasheet.ciiva.com/23843/150060ss75000-23843248.pdf?src-supplier=Newark; ComponentLink3URL: https://datasheet.ciiva.com/29279/759429-da-01-en-chipled-0603-w-kl-s-rot-150060ss75000-29279208.pdf?src-supplier=Conrad; ComponentLink3Description: https://datasheet.ciiva.com/29279/759429-da-01-en-chipled-0603-w-kl-s-rot-150060ss75000-29279208.pdf?src-supplier=Conrad; ComponentLink4URL: https://datasheet.ciiva.com/48430/150060ss75000-eng-tds-48430042.pdf?src-supplier=Distrelec; ComponentLink4Description: https://datasheet.ciiva.com/48430/150060ss75000-eng-tds-48430042.pdf?src-supplier=Distrelec; Supplier Part Number 1: 732-4979-1-ND
footprint 150060SS75000
pins: 1 Red +, 1 Red +, 2 RED -

## LED_RGB
designator D*, comment RGB LED  Manufacturer Part Number: 19-337C/RSBHGHC-A88/4T
Tri Color Pcb Top View SMD Led R; Manufacturer: Everlight; Supplier 1: Digi-Key; RoHS: No; Category: LEDs; Stock 1: 109225; Pricing 1: 1=0.40000, 10=0.24400, 100=0.14030, 1000=0.10980, 2000=0.10065 (USD); Supplier Part Number 1: 1080-1631-1-ND
footprint 19-337C/RSBHGHC-A88/4T
pins: 1 GREEN -, 2 Green +, 3 RED -, 4 Red +, 5 BLUE -, 6 Blue +

## LED_RGB_CLX6F
designator D  Supplier Part Number 1: CLX6F-FKC-CKNNQDGBB7A363CT-ND
Visible LED; Manufacturer: Cree; MP: CLX6F-FKC-CKNNQDGBB7A363; MF: Cree Inc.; Optoelectronic Device Type: TRIPLE COLOR LED; Value: *; SnapEDA_Link: https://www.snapeda.com/parts/CLX6F-FKC-CKNNQDGBB7A363/Cree%20Inc./view-part/641291/?ref=snap; Package: PLCC-6 Cree; Digi-Key_Part_Number: CLX6F-FKC-CKNNQDGBB7A363CT-ND; Digi-Key_Purchase_URL: https://www.digikey.de/product-detail/en/cree-inc/CLX6F-FKC-CKNNQDGBB7A363/CLX6F-FKC-CKNNQDGBB7A363CT-ND/9452642?utm_source=snapeda&utm_medium=aggregator&utm_campaign=symbol; Supplier 1: Digi-Key; Manufacturer Part Number: CLX6F-FKC-CKNNQDGBB7A363; RoHS: Yes; Category: LEDs; Stock 1: 37409; Pricing 1: 1=0.30000, 10=0.27900, 100=0.25800, 1000=0.23077 (USD); REACH SVHC: No SVHC; RoHS Compliant: Yes; ComponentLink1URL: https://datasheet.ciiva.com:443/pdfs/VipMasterIC/IC/CREE/CREE-S-A0009778122/CREE-S-A0009831345-1.pdf?src-supplier=IHS+Markit; ComponentLink1Description: https://datasheet.ciiva.com:443/pdfs/VipMasterIC/IC/CREE/CREE-S-A0009778122/CREE-S-A0009831345-1.pdf?src-supplier=IHS+Markit; ComponentLink2URL: http://www.farnell.com/datasheets/2813756.pdf?src-supplier=Farnell; ComponentLink2Description: http://www.farnell.com/datasheets/2813756.pdf?src-supplier=Farnell; ComponentLink3URL: http://www.mouser.com/ds/2/90/CLX6F-FKC-1352-1064258.pdf?src-supplier=Mouser; ComponentLink3Description: http://www.mouser.com/ds/2/90/CLX6F-FKC-1352-1064258.pdf?src-supplier=Mouser; ComponentLink4URL: http://www.farnell.com/datasheets/2813756.pdf?src-supplier=Element14; ComponentLink4Description: http://www.farnell.com/datasheets/2813756.pdf?src-supplier=Element14; ComponentLink5URL: http://www.farnell.com/datasheets/2813756.pdf?src-supplier=Newark; ComponentLink5Description: http://www.farnell.com/datasheets/2813756.pdf?src-supplier=Newark; ComponentLink6URL: https://www.cree.com/led-components/media/documents/CLX6F-FKC-1352.pdf?src-supplier=Digi-Key; ComponentLink6Description: https://www.cree.com/led-components/media/documents/CLX6F-FKC-1352.pdf?src-supplier=Digi-Key
footprint SOJ100P350X290-6N
pins: 1 BLUE -, 2 GREEN -, 3 RED -, 4 Red +, 5 Green +, 6 Blue +

## LED_RGB_Neopixel
designator D?  Manufacturer Part Number 1: ASMB-MTB1-0A3A2
LED RGB DIFFUSED 4PLCC SMD; Manufacturer 1: Broadcom; Color: Blue,Green,Red; Lens Color: White; Viewing Angle: 115°; Lens Style: Round; Luminous Intensity: 350mcd; Dominant Wavelength: 470nm; Forward Voltage: 3.1V; Test Current: 20mA; Package/Footprint: 4-PLCC; Supplier 1: Digi-Key; Mounting Type: SMD; Number of Pins: 4; Lens Transparency: Diffused; Supplier Part Number 1: 516-3280-1-ND
footprint LED_RGB
pins: 1 CATHODE (RED), 2 CATHODE (GREEN), 3 CATHODE (BLUE), 4 COMMON ANODE

## LED_RGB_THRUHOLE
designator D*, comment Tri Colour RGB LED
Supplier Link: https://www.amazon.com/Tricolor-Multicolor-Lighting-Electronics-Components/dp/B01C19ENDM
footprint RGB_LED_THRUHOLE
pins: 1 Red +, 2 Green +, 2 Green +, 3 Blue +, 4 Red +, 4 GND, 6 Blue +

## MOSFET
designator Q*, comment 24A 60V  Manufacturer Part Number: STD20NF06LT4
Power Field-Effect Transistor, 24A I(D), 60V, 0.05ohm, 1-Element, N-Channel, Silicon, Metal-oxide Semiconductor FET, TO-252AA; Manufacturer: STMicroelectronics; Package Body Material: Plastic; Avalanche Energy Rating (Eas): 225mJ; Drain-source On Resistance-Max: 50mR; Number of Elements: 1; Operating Mode: ENHANCEMENT MODE; Power Dissipation-Max (Abs): 60W; Pulsed Drain Current-Max (IDM): 96A; Time @ Peak Reflow Temperature-Max (s): 30s; Transistor Application: SWITCHING; Qualification Status: Not Qualified; Supplier 1: Digi-Key; RoHS: Yes; Category: MOSFETs; Stock 1: 17979; Pricing 1: 1=0.99000, 10=0.81000, 25=0.79520, 100=0.63000, 500=0.53400, 1000=0.43500 (USD); Number of Pins: 2; Package Shape: Rectangular; Terminal Finish: Tin; Transistor Element Material: SILICON; Max Operating Temperature: 175°C; JESD-609 Code: e3; Polarity/Channel Type: N-CHANNEL; Drain Current-Max (Abs) (ID): 24A; Drain Current-Max (ID): 24A; DS Breakdown Voltage-Min: 60V; FET Technology: METAL-OXIDE SEMICONDUCTOR; JESD-30 Code: R-PSSO-G2; Moisture Sensitivity Level: 1; Package Style: SMALL OUTLINEMeter; Peak Reflow Temperature (Cel): 260°C; Surface Mount: Yes; Terminal Form: Gull Wing; Terminal Position: SINGLE; JEDEC-95 Code: TO-252AA; ComponentLink1URL: https://datasheet.ciiva.com:443/pdfs/VipMasterIC/IC/SGST/SGSTS16849/SGSTS16849-1.pdf?src-supplier=IHS+Markit; ComponentLink1Description: https://datasheet.ciiva.com:443/pdfs/VipMasterIC/IC/SGST/SGSTS16849/SGSTS16849-1.pdf?src-supplier=IHS+Markit; ComponentLink2URL: https://datasheet.ciiva.com/5774/129580-5774199.pdf?src-supplier=Farnell; ComponentLink2Description: https://datasheet.ciiva.com/5774/129580-5774199.pdf?src-supplier=Farnell; ComponentLink3URL: https://datasheet.ciiva.com/4442/cd00003407-43085-4442056.pdf?src-supplier=Mouser; ComponentLink3Description: https://datasheet.ciiva.com/4442/cd00003407-43085-4442056.pdf?src-supplier=Mouser; ComponentLink4URL: https://datasheet.ciiva.com/25625/0900766b810e88d3-25625611.pdf?src-supplier=RSComponents; ComponentLink4Description: https://datasheet.ciiva.com/25625/0900766b810e88d3-25625611.pdf?src-supplier=RSComponents; ComponentLink5URL: https://datasheet.ciiva.com/46451/1398479-46451621.pdf?src-supplier=Jameco; ComponentLink5Description: https://datasheet.ciiva.com/46451/1398479-46451621.pdf?src-supplier=Jameco; ComponentLink6URL: https://datasheet.ciiva.com/16220/cd00003407-16220218.pdf?src-supplier=Future+Electronics; ComponentLink6Description: https://datasheet.ciiva.com/16220/cd00003407-16220218.pdf?src-supplier=Future+Electronics; ComponentLink7URL: https://datasheet.ciiva.com/17320/cd00003407-17320843.pdf?src-supplier=Avnet+Europe; ComponentLink7Description: https://datasheet.ciiva.com/17320/cd00003407-17320843.pdf?src-supplier=Avnet+Europe; ComponentLink8URL: https://datasheet.ciiva.com/937/cd00003407-937437.pdf?src-supplier=Digi-Key; ComponentLink8Description: https://datasheet.ciiva.com/937/cd00003407-937437.pdf?src-supplier=Digi-Key; ComponentLink9URL: https://datasheet.ciiva.com/937/cd00003407-937438.pdf?src-supplier=Digi-Key; ComponentLink9Description: https://datasheet.ciiva.com/937/cd00003407-937438.pdf?src-supplier=Digi-Key; ComponentLink10URL: https://datasheet.ciiva.com/937/cd00003407-937439.pdf?src-supplier=Digi-Key; ComponentLink10Description: https://datasheet.ciiva.com/937/cd00003407-937439.pdf?src-supplier=Digi-Key; Supplier Part Number 1: 497-5888-1-ND
footprint STD20NF06LT4
pins: 1 Gate, 2 Drain, 3 Source

## MOSFET N-60V-190mA
designator Q?, comment 2N7002NXAKR
Transistor Mosfet N-ch 60V 0.3A 3-PIN TO-263AB T/r; Manufacturer: Nexperia; MF: Nexperia USA Inc.; Value: *; Check_prices: https://www.snapeda.com/parts/2N7002NXAKR/Nexperia/view-part/4480350/?ref=eda; Availability: Good; Package: SOT23-3 Nexperia USA Inc.; SnapEDA_Link: https://www.snapeda.com/parts/2N7002NXAKR/Nexperia/view-part/4480350/?ref=snap; Price: None; Purchase-URL: https://pricing.snapeda.com/search/part/2N7002NXAKR/?ref=eda; MP: 2N7002NXAKR; Supplier 1: Digi-Key; Manufacturer Part Number: 2N7002NXAKR; RoHS: No; Stock 1: 47085; Pricing 1: 1=0.11000, 10=0.09800, 25=0.09360, 100=0.05360, 500=0.03298, 1000=0.02249 (USD); ComponentLink1URL: http://www.farnell.com/datasheets/2842563.pdf?src-supplier=Farnell; ComponentLink1Description: http://www.farnell.com/datasheets/2842563.pdf?src-supplier=Farnell; ComponentLink2URL: http://www.farnell.com/datasheets/2842563.pdf?src-supplier=Element14; ComponentLink2Description: http://www.farnell.com/datasheets/2842563.pdf?src-supplier=Element14; ComponentLink3URL: http://www.farnell.com/datasheets/2842563.pdf?src-supplier=Newark; ComponentLink3Description: http://www.farnell.com/datasheets/2842563.pdf?src-supplier=Newark; Supplier Part Number 1: 1727-8643-1-ND
footprint TO-236AB
pins: 1 G (io), 2 S (io), 3 D (io)

## MOTOR TERMINAL
designator M*, comment Screw Motor Terminal  Supplier Part Number 1: 36-8191-ND
PCB Terminal; Manufacturer: Keystone Electronics; Manufacturer Part Number: 8191; Wire/Cable Gauge: 14AWG; Supplier 1: Digi-Key; RoHS: Yes; Category: Terminals; Stock 1: 45275; Pricing 1: 1=0.42000, 25=0.38200, 100=0.37380, 250=0.35156, 500=0.31450 (USD); Terminal and Terminal Block Type: PCB TERMINAL; ComponentLink1URL: https://datasheet.ciiva.com:443/pdfs/VipMasterIC/IC/KEYC/KEYC-S-A0003063606/KEYC-S-A0003063606-1.pdf?src-supplier=IHS+Markit; ComponentLink1Description: https://datasheet.ciiva.com:443/pdfs/VipMasterIC/IC/KEYC/KEYC-S-A0003063606/KEYC-S-A0003063606-1.pdf?src-supplier=IHS+Markit; ComponentLink2URL: https://datasheet.ciiva.com/20206/33-4070e-20206385.pdf?src-supplier=Rapid+Electronics; ComponentLink2Description: https://datasheet.ciiva.com/20206/33-4070e-20206385.pdf?src-supplier=Rapid+Electronics; ComponentLink3URL: https://datasheet.ciiva.com/13540/8191-289796-13540191.pdf?src-supplier=Mouser; ComponentLink3Description: https://datasheet.ciiva.com/13540/8191-289796-13540191.pdf?src-supplier=Mouser; ComponentLink4URL: https://datasheet.ciiva.com/7628/1718241-7628730.pdf?src-supplier=Element14; ComponentLink4Description: https://datasheet.ciiva.com/7628/1718241-7628730.pdf?src-supplier=Element14; ComponentLink5URL: https://datasheet.ciiva.com/11836/0900766b800ab863-11836143.pdf?src-supplier=RSComponents; ComponentLink5Description: https://datasheet.ciiva.com/11836/0900766b800ab863-11836143.pdf?src-supplier=RSComponents; ComponentLink6URL: https://datasheet.ciiva.com/22649/1703998-22649573.pdf?src-supplier=Element14; ComponentLink6Description: https://datasheet.ciiva.com/22649/1703998-22649573.pdf?src-supplier=Element14
footprint 8191
pins: 1

## MOUNTING HOLE
designator *
footprint MOUNTING HOLE

## MPL115A2
designator U*  Supplier Part Number 1: MPL115A2-ND
Absolute, 7.25Psi Min, 16.67Psi Max, Rectangular, Surface Mount; Manufacturer: NXP Freescale; MP: MPL115A2; MF: NXP USA; Output Type: DIGITAL OUTPUT; Operating Current-Max: 10uA; Output Interface Type: I2C; Port Type: HOLE; Sensors/Transducers Type: PRESSURE SENSOR,PEIZORESISTIVE; Max Supply Voltage: 5.5V; Min Supply Voltage: 2.375V; Body Breadth: 3inch; Body Height: 1.2mm; Body Length or Diameter: 5mm; Availability: Unavailable; SnapEDA_Link: https://www.snapeda.com/parts/MPL115A2/NXP%20USA%20Inc./view-part/494170/?ref=snap; Price: None; Package: LGA-8 NXP Semiconductors; Value: *; Mouser-Purchase-URL: https://snapeda.com/shop?store=Mouser&id=494170; Supplier 1: Digi-Key; Manufacturer Part Number: MPL115A2; RoHS: Yes; Category: Pressure Sensors; Stock 1: 4480; Pricing 1: 1=7.73000, 5=6.82400, 10=6.02800, 25=5.95800 (USD); Mount: Surface Mount; Package Shape/Style: Rectangular; Min Operating Temperature: -40°C; Max Operating Temperature: 105°C; Pressure Range-Max: 16.67PSI; Pressure Range-Min: 7.25PSI; Pressure Type: Absolute; Termination: Solder; REACH SVHC: Yes; RoHS Compliant: Yes; ComponentLink1URL: https://datasheet.ciiva.com:443/pdfs/VipMasterIC/IC/PHGL/PHGL-S-A0003556458/PHGL-S-A0003556458-1.pdf?src-supplier=IHS+Markit; ComponentLink1Description: https://datasheet.ciiva.com:443/pdfs/VipMasterIC/IC/PHGL/PHGL-S-A0003556458/PHGL-S-A0003556458-1.pdf?src-supplier=IHS+Markit; ComponentLink2URL: https://datasheet.ciiva.com/2843/mpl115a2-2843361.pdf?src-supplier=Digi-Key; ComponentLink2Description: https://datasheet.ciiva.com/2843/mpl115a2-2843361.pdf?src-supplier=Digi-Key; ComponentLink3URL: https://datasheet.ciiva.com/3272/mpl115a2-3272679.pdf?src-supplier=Avnet; ComponentLink3Description: https://datasheet.ciiva.com/3272/mpl115a2-3272679.pdf?src-supplier=Avnet; ComponentLink4URL: https://datasheet.ciiva.com/1578/mpl115a2-1578868.pdf?src-supplier=Farnell; ComponentLink4Description: https://datasheet.ciiva.com/1578/mpl115a2-1578868.pdf?src-supplier=Farnell; ComponentLink5URL: https://datasheet.ciiva.com/26808/getdatasheetpartid-254526-26808246.pdf?src-supplier=Verical; ComponentLink5Description: https://datasheet.ciiva.com/26808/getdatasheetpartid-254526-26808246.pdf?src-supplier=Verical; ComponentLink6URL: https://datasheet.ciiva.com/26023/mpl115a2-26023221.pdf?src-supplier=Avnet+Europe; ComponentLink6Description: https://datasheet.ciiva.com/26023/mpl115a2-26023221.pdf?src-supplier=Avnet+Europe; ComponentLink7URL: https://datasheet.ciiva.com/1513/1789292-1513797.pdf?src-supplier=Element14; ComponentLink7Description: https://datasheet.ciiva.com/1513/1789292-1513797.pdf?src-supplier=Element14; ComponentLink8URL: https://datasheet.ciiva.com/1513/1789292-1513908.pdf?src-supplier=Element14; ComponentLink8Description: https://datasheet.ciiva.com/1513/1789292-1513908.pdf?src-supplier=Element14
footprint LGA8 - MPL115A2
pins: 1 VDD (power), 2 CAP, 3 GND (power), 4 *SHDN, 5 *RST, 6 NC, 7 SDA (io), 8 SCL (in)

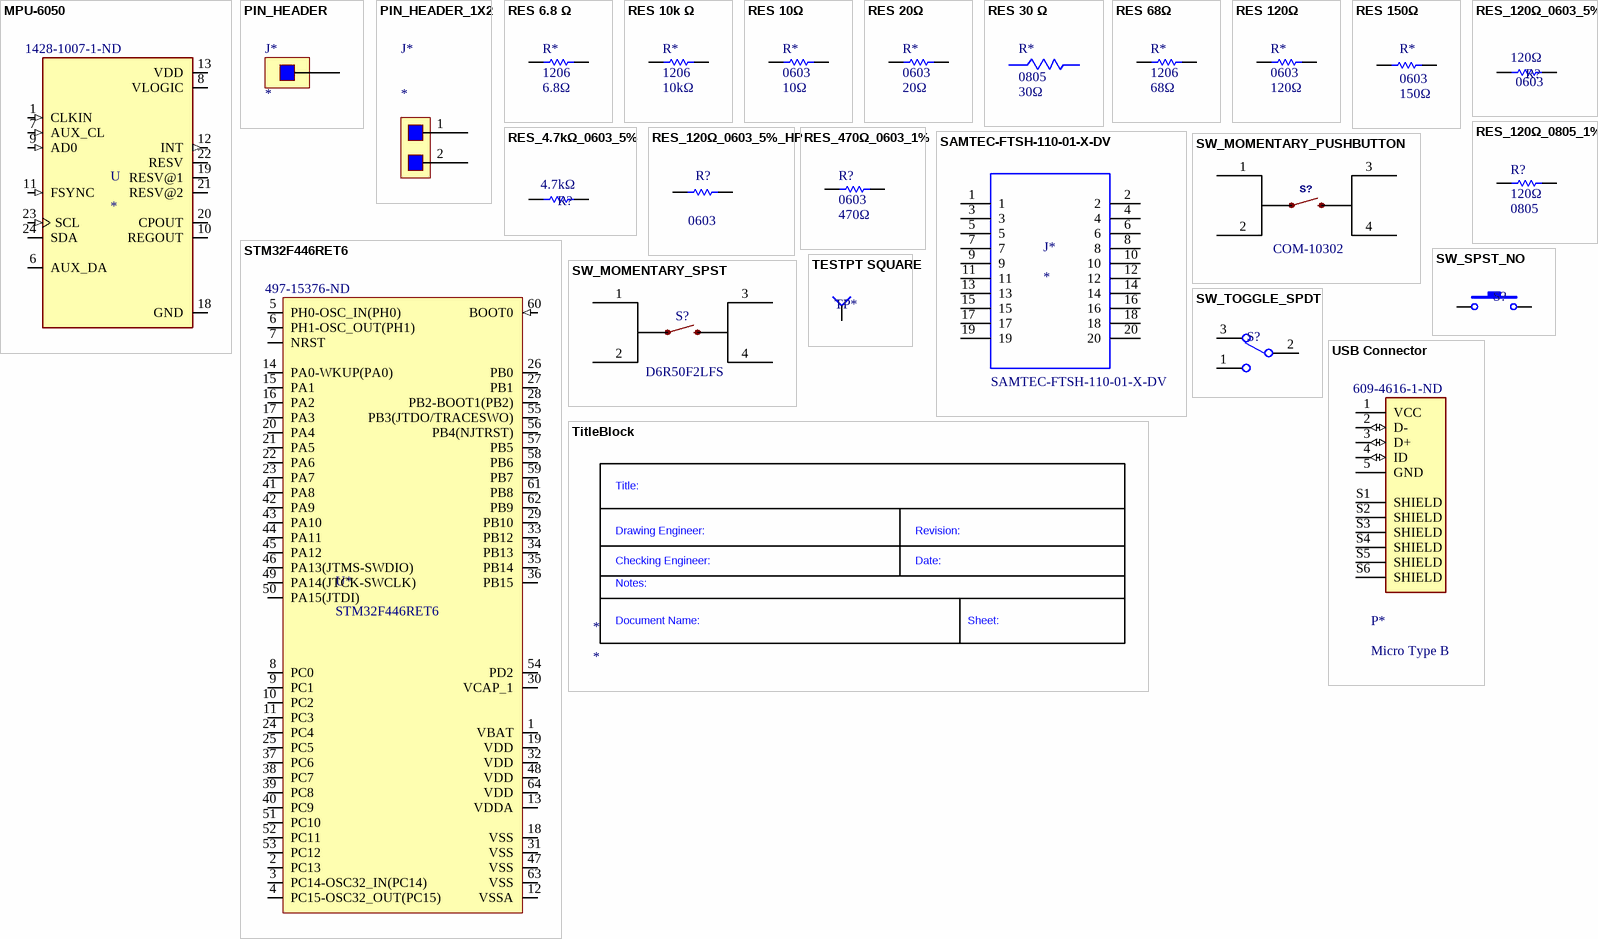
[diagram p1: symbols MPU-6050 to USB Connector]

## MPU-6050
designator U  Supplier Part Number 1: 1428-1007-1-ND
Analog Circuit, 1 Func, CMOS; MF: TDK InvenSense; Number of Functions: 1; Package Equivalence Code: LCC24,.16SQ,20; Power Supplies: 1.8,2.5/3.3V; Supply Voltage-Max (Vsup): 3.46V; Supply Voltage-Min (Vsup): 2.375V; Supply Voltage-Nom (Vsup): 2.5V; Qualification Status: Not Qualified; Price: None; Package: VFQFN-24 TDK InvenSense; MP: MPU-6050; Value: *; Availability: Unavailable; SnapEDA_Link: https://www.snapeda.com/parts/MPU-6050/TDK%20InvenSense/view-part/4503180/?ref=snap; Supplier 1: Digi-Key; Manufacturer: TDK InvenSense; Manufacturer Part Number: MPU-6050; RoHS: Yes; Category: Inertial Measurement Units (IMUs); Stock 1: 4503; Pricing 1: 1=10.70000, 5=6.95000, 10=6.25500, 25=5.56000, 50=5.14300, 100=4.44800, 500=4.17000, 1000=3.89200 (USD); Package Code: HVQCCN; Number of Pins: 24; Package Shape: Square; Terminal Finish: Nickel; Min Operating Temperature: -40°C; Max Operating Temperature: 85°C; Analog IC - Other Type: ANALOG CIRCUIT; JESD-609 Code: e4; JESD-30 Code: S-XQCC-N24; Package Style: CHIP CARRIER, HEAT SINK/SLUG, VERY THIN PROFILEMeter; Surface Mount: Yes; Technology: CMOS; Terminal Form: No Lead; Terminal Position: QUAD; Moisture Sensitivity Level: 3; Length: 4mm; Width: 4mm; Height - Seated (Max): 0.95mm; Terminal Pitch: 0.5mm; REACH SVHC: No SVHC; RoHS Compliant: Yes; Temperature Grade: INDUSTRIAL; ComponentLink1URL: https://datasheet.ciiva.com:443/pdfs/VipMasterIC/IC/IVNC/IVNCS00058/IVNCS00058-1.pdf?src-supplier=IHS+Markit; ComponentLink1Description: https://datasheet.ciiva.com:443/pdfs/VipMasterIC/IC/IVNC/IVNCS00058/IVNCS00058-1.pdf?src-supplier=IHS+Markit; ComponentLink2URL: https://datasheet.ciiva.com/1513/1788002-1513632.pdf?src-supplier=Element14; ComponentLink2Description: https://datasheet.ciiva.com/1513/1788002-1513632.pdf?src-supplier=Element14; ComponentLink3URL: https://datasheet.ciiva.com/22731/1788002-22731434.pdf?src-supplier=Element14; ComponentLink3Description: https://datasheet.ciiva.com/22731/1788002-22731434.pdf?src-supplier=Element14
footprint QFN50P400X400X95-24N
pins: 1 CLKIN (in), 6 AUX_DA (io), 7 AUX_CL (in), 8 VLOGIC (power), 9 AD0 (in), 10 REGOUT, 11 FSYNC (in), 12 INT (out), 13 VDD (power), 18 GND (power), 19 RESV@1, 20 CPOUT, 21 RESV@2, 22 RESV, 23 SCL (in), 24 SDA (io)

## PIN_HEADER
designator J*
Board Connector, 1 Contact(s), 1 Row(s), Male, Straight, Solder Terminal; Manufacturer: Sullins; Manufacturer Part Number: PREC001SAAN-RC; Option: General Purpose; Filter Feature: No; Number of Rows Loaded: 1; Supplier 1: Digi-Key; RoHS: Yes; Category: Connectors; Stock 1: 16681; Pricing 1: 1=0.04000, 10=0.03000, 25=0.02800, 50=0.02080, 100=0.01780, 250=0.01724, 500=0.01486 (USD); Mount: Board; Connector Type: BOARD CONNECTOR; Contact Gender: Male; Mixed Contacts: No; Mounting Style: STRAIGHT; Termination: Solder; Number of Contacts: 1; Flammability Rating: UL94 V-0; DIN Conformance: No; IEC Conformance: No; MIL Conformance: No; ComponentLink1URL: https://datasheet.ciiva.com:443/pdfs/VipMasterIC/IC/SUCS/SUCS-S-A0005121173/SUCS-S-A0005121173-1.pdf?src-supplier=IHS+Markit; ComponentLink1Description: https://datasheet.ciiva.com:443/pdfs/VipMasterIC/IC/SUCS/SUCS-S-A0005121173/SUCS-S-A0005121173-1.pdf?src-supplier=IHS+Markit; ComponentLink2URL: https://datasheet.ciiva.com/740/zrzczzzszzn-rc-st-11635-b-740844.pdf?src-supplier=Digi-Key; ComponentLink2Description: https://datasheet.ciiva.com/740/zrzczzzszzn-rc-st-11635-b-740844.pdf?src-supplier=Digi-Key; Supplier Part Number 1: S1012EC-01-ND
footprint PIN_HEADER
pins: 1 0

## PIN_HEADER_1X2
designator J*
Board Connector, 1 Contact(s), 1 Row(s), Male, Straight, Solder Terminal; Manufacturer: Sullins; Manufacturer Part Number: PREC001SAAN-RC; Option: General Purpose; Filter Feature: No; Number of Rows Loaded: 1; Supplier 1: Digi-Key; RoHS: Yes; Category: Connectors; Stock 1: 16681; Pricing 1: 1=0.04000, 10=0.03000, 25=0.02800, 50=0.02080, 100=0.01780, 250=0.01724, 500=0.01486 (USD); Mount: Board; Connector Type: BOARD CONNECTOR; Contact Gender: Male; Mixed Contacts: No; Mounting Style: STRAIGHT; Termination: Solder; Number of Contacts: 1; Flammability Rating: UL94 V-0; DIN Conformance: No; IEC Conformance: No; MIL Conformance: No; ComponentLink1URL: https://datasheet.ciiva.com:443/pdfs/VipMasterIC/IC/SUCS/SUCS-S-A0005121173/SUCS-S-A0005121173-1.pdf?src-supplier=IHS+Markit; ComponentLink1Description: https://datasheet.ciiva.com:443/pdfs/VipMasterIC/IC/SUCS/SUCS-S-A0005121173/SUCS-S-A0005121173-1.pdf?src-supplier=IHS+Markit; ComponentLink2URL: https://datasheet.ciiva.com/740/zrzczzzszzn-rc-st-11635-b-740844.pdf?src-supplier=Digi-Key; ComponentLink2Description: https://datasheet.ciiva.com/740/zrzczzzszzn-rc-st-11635-b-740844.pdf?src-supplier=Digi-Key; Supplier Part Number 1: S1012EC-01-ND
footprint PIN_HEADER - 1X2
pins: 1 0, 2 0